# Altium footprint library Package_LGA.PcbLib: 28 footprints (part 1 of 2)
Each footprint in its own frame and in the unit in brackets; x right, y up, seen from the top. Pads: shape width x height; smd on the part's side, far side on the other; paste and mask are expansions set on the pad; w line width, h text height; cw(c..) or ccw(c..) is an arc to the next point about the centre after c.
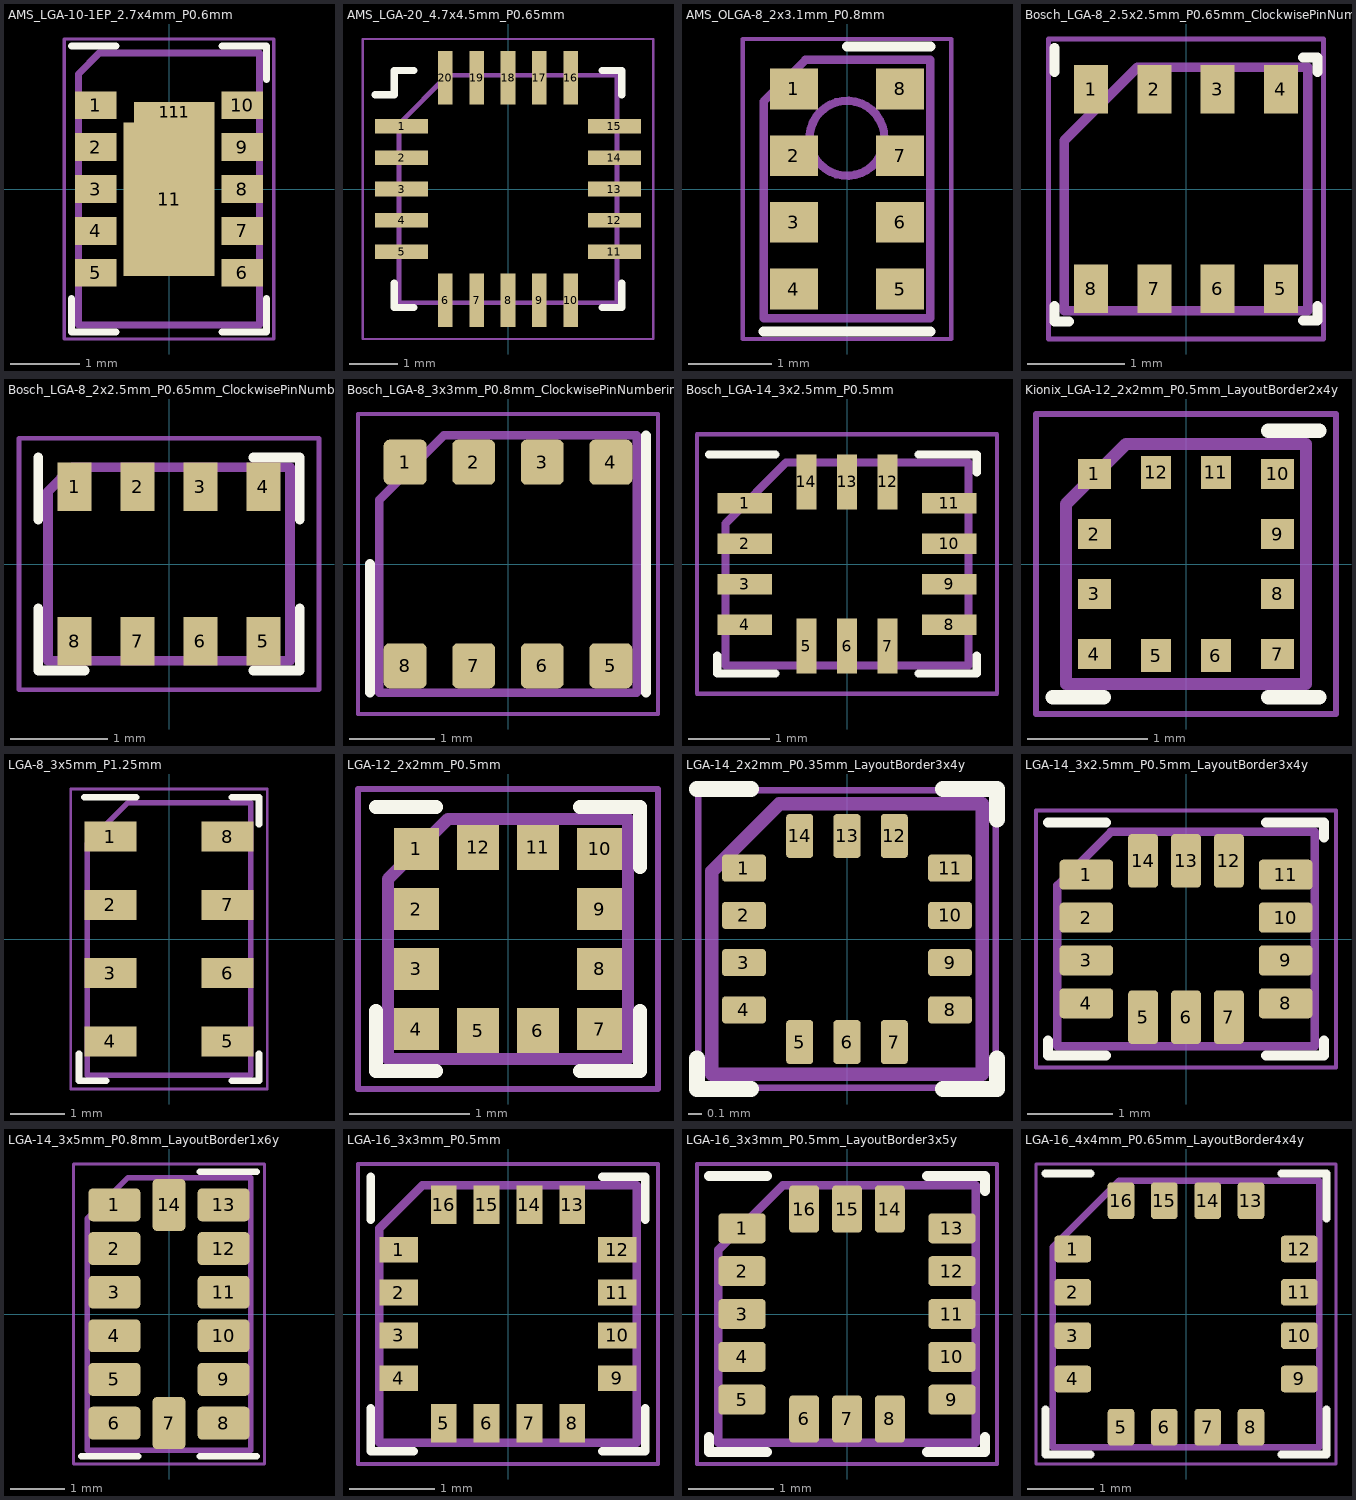
[diagram p0: the footprints below, top view; thin cyan lines are the x and y axes]

## AMS_LGA-10-1EP_2.7x4mm_P0.6mm [mm]
pads (13):
  rect 0.6x0.4 smd: 1(-1.05,1.2) 2(-1.05,0.6) 3(-1.05,0) 4(-1.05,-0.6) 5(-1.05,-1.2) 6(1.05,-1.2) 7(1.05,-0.6) 8(1.05,0) 9(1.05,0.6) 10(1.05,1.2)
  rect 1.3x2.2 smd: 11(0,-0.15)
  rect 1x0.3 smd: 11(0,1.1) 11(0.15,1.1)
F.SilkS:
  lines w0.1: -1.4,-1.57 -1.4,-2.05 -0.76,-2.05 ; -1.4,2.05 -0.76,2.05 ; 0.76,-2.05 1.4,-2.05 1.4,-1.57 ; 0.76,2.05 1.4,2.05 1.4,1.57
F.CrtYd:
  lines w0.05: -1.5,-2.15 1.5,-2.15 1.5,2.15 -1.5,2.15 -1.5,-2.15
F.Fab:
  lines w0.1: -1.3,-1.95 -1.3,1.65 -1,1.95 1.3,1.95 1.3,-1.95 -1.3,-1.95
  text "'.Designator'" at -1.998,-0.395 h0.5

## AMS_LGA-20_4.7x4.5mm_P0.65mm [mm]
pads (20):
  rect 1.1x0.3 smd: 1(-2.2,1.3) 2(-2.2,0.65) 3(-2.2,0) 4(-2.2,-0.65) 5(-2.2,-1.3) 11(2.2,-1.3) 12(2.2,-0.65) 13(2.2,0) 14(2.2,0.65) 15(2.2,1.3)
  rect 0.3x1.1 smd: 6(-1.3,-2.3) 7(-0.65,-2.3) 8(0,-2.3) 9(0.65,-2.3) 10(1.3,-2.3) 16(1.3,2.3) 17(0.65,2.3) 18(0,2.3) 19(-0.65,2.3) 20(-1.3,2.3)
F.SilkS:
  lines w0.15: -2.75,1.95 -2.35,1.95 -2.35,2.45 -1.95,2.45 ; -2.35,-1.95 -2.35,-2.45 -1.95,-2.45 ; 1.95,-2.45 2.35,-2.45 2.35,-1.95 ; 1.95,2.45 2.35,2.45 2.35,1.95
F.CrtYd:
  lines w0.05: -3,-3.1 -3,3.1 3,3.1 3,-3.1 -3,-3.1
F.Fab:
  lines w0.1: -2.25,-2.35 2.25,-2.35 2.25,2.35 -1.25,2.35 -2.25,1.35 -2.25,-2.35
  text "'.Designator'" at -2.023,-0.42 h0.5

## AMS_OLGA-8_2x3.1mm_P0.8mm [mm]
pads (8):
  rrect0% 0.575x0.488 smd: 1(-0.638,1.2)
  rect 0.575x0.488 smd: 2(-0.638,0.4) 3(-0.638,-0.4) 4(-0.638,-1.2) 5(0.638,-1.2) 6(0.638,-0.4) 7(0.638,0.4) 8(0.638,1.2)
F.SilkS:
  lines w0.12: -1,-1.71 1,-1.71 ; 0,1.71 1,1.71
F.CrtYd:
  lines w0.05: -1.25,-1.8 -1.25,1.8 1.25,1.8 1.25,-1.8 -1.25,-1.8
F.Fab:
  circle w0.1: c0,0.609 r0.45
  lines w0.1: -1,-1.55 -1,1.05 -0.5,1.55 1,1.55 1,-1.55 -1,-1.55
  text "'.Designator'" at -2.028,-0.675 h0.5

## Bosch_LGA-8_2.5x2.5mm_P0.65mm_ClockwisePinNumbering [mm]
pads (8):
  rect 0.35x0.5 smd: 1(-0.975,1.025) 2(-0.325,1.025) 3(0.325,1.025) 4(0.975,1.025) 5(0.975,-1.025) 6(0.325,-1.025) 7(-0.325,-1.025) 8(-0.975,-1.025)
F.SilkS:
  lines w0.1: -1.35,-1.36 -1.2,-1.36 ; -1.35,-1.35 -1.35,-1.2 ; -1.35,1.2 -1.35,1.45 ; 1.2,-1.35 1.35,-1.35 1.35,-1.2 ; 1.2,1.35 1.35,1.35 1.35,1.2
F.CrtYd:
  lines w0.05: -1.41,-1.54 1.41,-1.54 1.41,1.54 -1.41,1.54 -1.41,-1.54
F.Fab:
  lines w0.1: -1.25,-1.25 1.25,-1.25 1.25,1.25 -0.5,1.25 -1.25,0.5 -1.25,-1.25
  text "'.Designator'" at -2.023,-0.42 h0.5

## Bosch_LGA-8_2x2.5mm_P0.65mm_ClockwisePinNumbering [mm]
pads (8):
  rect 0.35x0.5 smd: 1(-0.975,0.8) 2(-0.325,0.8) 3(0.325,0.8) 4(0.975,0.8) 5(0.975,-0.8) 6(0.325,-0.8) 7(-0.325,-0.8) 8(-0.975,-0.8)
F.SilkS:
  lines w0.1: -1.35,-0.46 -1.35,-1.1 -0.87,-1.1 ; -1.35,0.46 -1.35,1.1 ; 0.87,-1.1 1.35,-1.1 1.35,-0.46 ; 0.87,1.1 1.35,1.1 1.35,0.46
F.CrtYd:
  lines w0.05: -1.55,-1.3 -1.55,1.3 1.55,1.3 1.55,-1.3 -1.55,-1.3
F.Fab:
  lines w0.1: -1.25,-1 1.25,-1 1.25,1 -1,1 -1.25,0.75 -1.25,-1
  text "'.Designator'" at -2.023,-0.42 h0.5

## Bosch_LGA-8_3x3mm_P0.8mm_ClockwisePinNumbering [mm]
pads (8):
  rrect25% 0.5x0.525 smd: 1(-1.2,1.188) 2(-0.4,1.188) 3(0.4,1.188) 4(1.2,1.188) 5(1.2,-1.188) 6(0.4,-1.188) 7(-0.4,-1.188) 8(-1.2,-1.188)
F.SilkS:
  lines w0.12: -1.61,-1.5 -1.61,0 ; 1.61,-1.5 1.61,1.5
F.CrtYd:
  lines w0.05: -1.75,-1.75 1.75,-1.75 1.75,1.75 -1.75,1.75 -1.75,-1.75
F.Fab:
  lines w0.1: -1.5,-1.5 1.5,-1.5 1.5,1.5 -0.75,1.5 -1.5,0.75 -1.5,-1.5
  text "'.Designator'" at -3.033,-0.628 h0.75

## Bosch_LGA-14_3x2.5mm_P0.5mm [mm]
pads (14):
  rect 0.675x0.25 smd: 1(-1.262,0.75) 2(-1.262,0.25) 3(-1.262,-0.25) 4(-1.262,-0.75) 8(1.262,-0.75) 9(1.262,-0.25) 10(1.262,0.25) 11(1.262,0.75)
  rect 0.25x0.675 smd: 5(-0.5,-1.012) 6(0,-1.012) 7(0.5,-1.012) 12(0.5,1.012) 13(0,1.012) 14(-0.5,1.012)
F.SilkS:
  lines w0.1: -1.7,1.35 -0.88,1.35 ; -1.6,-1.13 -1.6,-1.35 -0.88,-1.35 ; 0.88,-1.35 1.6,-1.35 1.6,-1.13 ; 0.88,1.35 1.6,1.35 1.6,1.13
F.CrtYd:
  lines w0.05: -1.85,-1.6 -1.85,1.6 1.85,1.6 1.85,-1.6 -1.85,-1.6
F.Fab:
  lines w0.1: -1.5,-1.25 -1.5,0.5 -0.75,1.25 1.5,1.25 1.5,-1.25 -1.5,-1.25
  text "'.Designator'" at -2.023,-0.42 h0.5

## Kionix_LGA-12_2x2mm_P0.5mm_LayoutBorder2x4y [mm]
pads (12):
  rect 0.275x0.25 smd: 1(-0.763,0.75) 2(-0.763,0.25) 3(-0.763,-0.25) 4(-0.763,-0.75) 7(0.763,-0.75) 8(0.763,-0.25) 9(0.763,0.25) 10(0.763,0.75)
  rect 0.25x0.275 smd: 5(-0.25,-0.763) 6(0.25,-0.763) 11(0.25,0.763) 12(-0.25,0.763)
F.SilkS:
  lines w0.12: -1.11,-1.11 -0.685,-1.11 ; 0.685,-1.11 1.11,-1.11 ; 0.685,1.11 1.11,1.11
F.CrtYd:
  lines w0.05: -1.25,-1.25 -1.25,1.25 1.25,1.25 1.25,-1.25 -1.25,-1.25
F.Fab:
  lines w0.1: -1,-1 1,-1 1,1 -0.5,1 -1,0.5 -1,-1
  text "'.Designator'" at -2.028,-0.425 h0.5

## LGA-8_3x5mm_P1.25mm [mm]
pads (8):
  rect 0.95x0.55 smd: 1(-1.075,1.875) 2(-1.075,0.625) 3(-1.075,-0.625) 4(-1.075,-1.875) 5(1.075,-1.875) 6(1.075,-0.625) 7(1.075,0.625) 8(1.075,1.875)
F.SilkS:
  lines w0.12: -1.65,-2.1 -1.65,-2.6 -1.15,-2.6 ; -1.55,2.6 -0.6,2.6 ; 1.15,-2.6 1.65,-2.6 1.65,-2.1 ; 1.15,2.6 1.65,2.6 1.65,2.1
F.CrtYd:
  lines w0.05: -1.8,-2.75 1.8,-2.75 1.8,2.75 -1.8,2.75 -1.8,-2.75
F.Fab:
  lines w0.1: -1.5,-2.5 1.5,-2.5 1.5,2.5 -0.75,2.5 -1.5,1.75 -1.5,-2.5
  text "'.Designator'" at -2.023,-0.42 h0.5

## LGA-12_2x2mm_P0.5mm [mm]
pads (12):
  rect 0.375x0.35 smd: 1(-0.763,0.75) 2(-0.763,0.25) 3(-0.763,-0.25) 4(-0.763,-0.75) 7(0.763,-0.75) 8(0.763,-0.25) 9(0.763,0.25) 10(0.763,0.75)
  rect 0.35x0.375 smd: 5(-0.25,-0.763) 6(0.25,-0.763) 11(0.25,0.763) 12(-0.25,0.763)
F.SilkS:
  lines w0.12: -1.1,-0.6 -1.1,-1.1 -0.6,-1.1 ; -1.1,1.1 -0.6,1.1 ; 0.6,-1.1 1.1,-1.1 1.1,-0.6 ; 0.6,1.1 1.1,1.1 1.1,0.6
F.CrtYd:
  lines w0.05: -1.25,-1.25 -1.25,1.25 1.25,1.25 1.25,-1.25 -1.25,-1.25
F.Fab:
  lines w0.1: -1,-1 1,-1 1,1 -0.5,1 -1,0.5 -1,-1
  text "'.Designator'" at -2.023,-0.42 h0.5

## LGA-14_2x2mm_P0.35mm_LayoutBorder3x4y [mm]
pads (14):
  rrect25% 0.325x0.2 smd: 1(-0.763,0.525) 2(-0.763,0.175) 3(-0.763,-0.175) 4(-0.763,-0.525) 8(0.763,-0.525) 9(0.763,-0.175) 10(0.763,0.175) 11(0.763,0.525)
  rrect25% 0.2x0.325 smd: 5(-0.35,-0.763) 6(0,-0.763) 7(0.35,-0.763) 12(0.35,0.763) 13(0,0.763) 14(-0.35,0.763)
F.SilkS:
  lines w0.12: -1.11,-0.885 -1.11,-1.11 -0.71,-1.11 ; -1.11,1.11 -0.71,1.11 ; 0.71,-1.11 1.11,-1.11 1.11,-0.885 ; 0.71,1.11 1.11,1.11 1.11,0.885
F.CrtYd:
  lines w0.05: -1.1,-1.1 -1.1,1.1 1.1,1.1 1.1,-1.1 -1.1,-1.1
F.Fab:
  lines w0.1: -1,-1 -1,0.5 -0.5,1 1,1 1,-1 -1,-1
  text "'.Designator'" at -2.028,-0.425 h0.5

## LGA-14_3x2.5mm_P0.5mm_LayoutBorder3x4y [mm]
pads (14):
  rrect25% 0.625x0.35 smd: 1(-1.162,0.75) 2(-1.162,0.25) 3(-1.162,-0.25) 4(-1.162,-0.75) 8(1.162,-0.75) 9(1.162,-0.25) 10(1.162,0.25) 11(1.162,0.75)
  rrect25% 0.35x0.625 smd: 5(-0.5,-0.913) 6(0,-0.913) 7(0.5,-0.913) 12(0.5,0.913) 13(0,0.913) 14(-0.5,0.913)
F.SilkS:
  lines w0.12: -1.61,-1.185 -1.61,-1.36 -0.935,-1.36 ; -1.61,1.36 -0.935,1.36 ; 0.935,-1.36 1.61,-1.36 1.61,-1.185 ; 0.935,1.36 1.61,1.36 1.61,1.185
F.CrtYd:
  lines w0.05: -1.75,-1.5 -1.75,1.5 1.75,1.5 1.75,-1.5 -1.75,-1.5
F.Fab:
  lines w0.1: -1.5,-1.25 -1.5,0.625 -0.875,1.25 1.5,1.25 1.5,-1.25 -1.5,-1.25
  text "'.Designator'" at -3.033,-0.628 h0.75

## LGA-14_3x5mm_P0.8mm_LayoutBorder1x6y [mm]
pads (14):
  rrect25% 0.95x0.6 smd: 1(-1,2) 2(-1,1.2) 3(-1,0.4) 4(-1,-0.4) 5(-1,-1.2) 6(-1,-2) 8(1,-2) 9(1,-1.2) 10(1,-0.4) 11(1,0.4) 12(1,1.2) 13(1,2)
  rrect25% 0.6x0.95 smd: 7(0,-2) 14(0,2)
F.SilkS:
  lines w0.12: -1.61,-2.61 -0.56,-2.61 ; 0.56,-2.61 1.61,-2.61 ; 0.56,2.61 1.61,2.61
F.CrtYd:
  lines w0.05: -1.75,-2.75 1.75,-2.75 1.75,2.75 -1.75,2.75 -1.75,-2.75
F.Fab:
  lines w0.1: -1.5,-2.5 -1.5,1.75 -0.75,2.5 1.5,2.5 1.5,-2.5 -1.5,-2.5
  text "'.Designator'" at -3.033,-0.628 h0.75

## LGA-16_3x3mm_P0.5mm [mm]
pads (16):
  rect 0.45x0.3 smd: 1(-1.275,0.75) 2(-1.275,0.25) 3(-1.275,-0.25) 4(-1.275,-0.75) 9(1.275,-0.75) 10(1.275,-0.25) 11(1.275,0.25) 12(1.275,0.75)
  rect 0.3x0.45 smd: 5(-0.75,-1.275) 6(-0.25,-1.275) 7(0.25,-1.275) 8(0.75,-1.275) 13(0.75,1.275) 14(0.25,1.275) 15(-0.25,1.275) 16(-0.75,1.275)
F.SilkS:
  lines w0.1: -1.6,-1.1 -1.6,-1.6 -1.1,-1.6 ; -1.6,1.1 -1.6,1.6 ; 1.1,-1.6 1.6,-1.6 ; 1.1,1.6 1.6,1.6 1.6,1.1 ; 1.6,-1.6 1.6,-1.1 1.6,-1.6
F.CrtYd:
  lines w0.05: -1.75,-1.75 -1.75,1.75 1.75,1.75 1.75,-1.75 -1.75,-1.75
F.Fab:
  lines w0.1: -1.5,-1.5 -1.5,1 -1,1.5 1.5,1.5 1.5,-1.5 -1.5,-1.5
  text "'.Designator'" at -1.619,-0.336 h0.4

## LGA-16_3x3mm_P0.5mm_LayoutBorder3x5y [mm]
pads (16):
  rrect25% 0.55x0.35 smd: 1(-1.225,1) 2(-1.225,0.5) 3(-1.225,0) 4(-1.225,-0.5) 5(-1.225,-1) 9(1.225,-1) 10(1.225,-0.5) 11(1.225,0) 12(1.225,0.5) 13(1.225,1)
  rrect25% 0.35x0.55 smd: 6(-0.5,-1.225) 7(0,-1.225) 8(0.5,-1.225) 14(0.5,1.225) 15(0,1.225) 16(-0.5,1.225)
F.SilkS:
  lines w0.12: -1.61,-1.435 -1.61,-1.61 -0.935,-1.61 ; -1.61,1.61 -0.935,1.61 ; 0.935,-1.61 1.61,-1.61 1.61,-1.435 ; 0.935,1.61 1.61,1.61 1.61,1.435
F.CrtYd:
  lines w0.05: -1.75,-1.75 1.75,-1.75 1.75,1.75 -1.75,1.75 -1.75,-1.75
F.Fab:
  lines w0.1: -1.5,-1.5 -1.5,0.75 -0.75,1.5 1.5,1.5 1.5,-1.5 -1.5,-1.5
  text "'.Designator'" at -3.033,-0.628 h0.75

## LGA-16_4x4mm_P0.65mm_LayoutBorder4x4y [mm]
pads (16):
  rrect25% 0.55x0.4 smd: 1(-1.7,0.975) 2(-1.7,0.325) 3(-1.7,-0.325) 4(-1.7,-0.975) 9(1.7,-0.975) 10(1.7,-0.325) 11(1.7,0.325) 12(1.7,0.975)
  rrect25% 0.4x0.55 smd: 5(-0.975,-1.7) 6(-0.325,-1.7) 7(0.325,-1.7) 8(0.975,-1.7) 13(0.975,1.7) 14(0.325,1.7) 15(-0.325,1.7) 16(-0.975,1.7)
F.SilkS:
  lines w0.12: -2.11,-1.435 -2.11,-2.11 -1.435,-2.11 ; -2.11,2.11 -1.435,2.11 ; 1.435,-2.11 2.11,-2.11 2.11,-1.435 ; 1.435,2.11 2.11,2.11 2.11,1.435
F.CrtYd:
  lines w0.05: -2.25,-2.25 2.25,-2.25 2.25,2.25 -2.25,2.25 -2.25,-2.25
F.Fab:
  lines w0.1: -2,-2 -2,1 -1,2 2,2 2,-2 -2,-2
  text "'.Designator'" at -4.047,-0.84 h1